# Altium footprint library GQ2440.PcbLib: 44 footprints (part 3 of 3)
Each footprint in its own frame and in the unit in brackets; x right, y up, seen from the top. Pads: shape width x height; smd on the part's side, far side on the other; paste and mask are expansions set on the pad; w line width, h text height; cw(c..) or ccw(c..) is an arc to the next point about the centre after c.
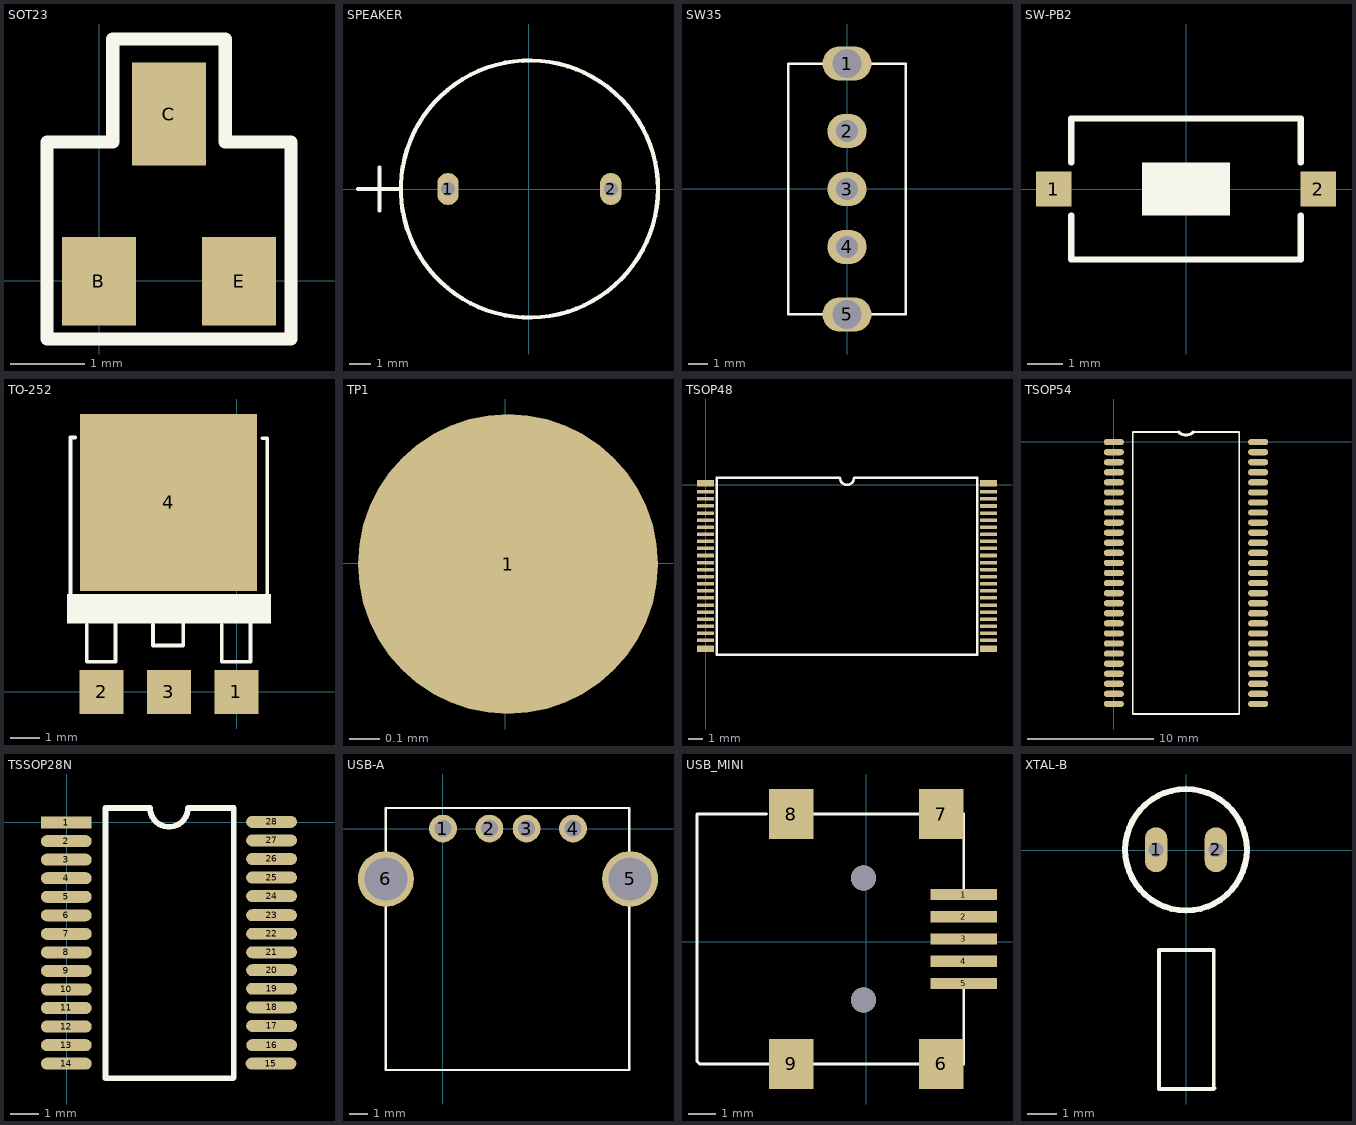
[diagram p2: the footprints below, top view; thin cyan lines are the x and y axes]

## SOT23 [mm]
pads (3):
  rect 1x1.2 smd: B(-0.006,-0.008) E(1.894,-0.008)
  rect 1x1.4 smd: C(0.944,2.258)
Top Overlay:
  lines w0.178: -0.707,-0.79 -0.707,1.877 0.182,1.877 0.182,3.274 1.706,3.274 1.706,1.877 2.595,1.877 2.595,-0.79 -0.707,-0.79

## SPEAKER [mm]
pads (2):
  oval 1x1.5 hole 0.65: 1(-3.779,0.01) 2(3.821,0.01)
Top Overlay:
  circle w0.2: c0.021,0.01 r6
  lines w0.2: -7.979,0.01 -5.979,0.01 ; -6.979,-0.99 -6.979,1.01

## SW35 [mil]
pads (5):
  oval 100x70 hole 60: 1(-0.65,255.25) 5(-0.65,-256.57)
  oval 80x70 hole 45: 2(-0.65,117.45) 3(-0.65,-0.66) 4(-0.65,-118.77)
Top Overlay:
  lines w5: -120.65,-255.66 119.35,-255.66 119.35,254.34 -120.65,254.34 -120.65,-255.66

## SW-PB2 [mm]
pads (2):
  rect 1x1 smd: 1(-3.753,0.001) 2(3.747,0.001)
Top Overlay:
  rectangle: -1.253,-0.749 1.247,0.751
  lines w0.178: -3.253,-0.749 -3.253,-1.999 3.247,-1.999 3.247,-0.749 ; -3.253,0.751 -3.253,2.001 3.247,2.001 3.247,0.751

## TO-252 [mm]
pads (4):
  rect 1.5x1.5 smd: 1(-0.011,-0.009) 2(-4.583,-0.009) 3(-2.297,-0.009)
  rect 6x6 smd: 4(-2.311,6.416)
Top Overlay:
  rectangle: -5.759,2.315 1.166,3.315
  lines w0.127: -5.636,3.141 -5.636,8.616 ; -5.611,8.616 -5.486,8.616 ; -5.086,2.266 -5.086,1.016 -4.111,1.016 -4.111,2.291 ; -2.836,2.266 -2.836,1.566 -1.811,1.566 -1.811,2.366 ; -0.511,2.266 -0.511,1.016 0.464,1.016 ; 0.464,2.291 0.464,1.016 ; 0.864,8.591 1.014,8.591 ; 1.039,3.166 1.039,8.591 ; 0.464,1.016 0.464,1.016

## TP1 [mm]
pads (1):
  round 1 smd: 1(0.009,-0.003)

## TSOP48 [mm]
pads (48):
  rect 1.2x0.45 smd: 1(-0.012,0.103) 24(-0.012,-11.597) 25(19.988,-11.597) 48(19.988,0.103)
  rect 1.2x0.25 smd: 2(-0.012,-0.497) 3(-0.012,-0.997) 4(-0.012,-1.497) 5(-0.012,-1.997) 6(-0.012,-2.497) 7(-0.012,-2.997) 8(-0.012,-3.497) 9(-0.012,-3.997) 10(-0.012,-4.497) 11(-0.012,-4.997) 12(-0.012,-5.497) 13(-0.012,-5.997) 14(-0.012,-6.497) 15(-0.012,-6.997) 16(-0.012,-7.497) 17(-0.012,-7.997) 18(-0.012,-8.497) 19(-0.012,-8.997) 20(-0.012,-9.497) 21(-0.012,-9.997) 22(-0.012,-10.497) 23(-0.012,-10.997) 26(19.988,-10.997) 27(19.988,-10.497) 28(19.988,-9.997) 29(19.988,-9.497) 30(19.988,-8.997) 31(19.988,-8.497) 32(19.988,-7.997) 33(19.988,-7.497) 34(19.988,-6.997) 35(19.988,-6.497) 36(19.988,-5.997) 37(19.988,-5.497) 38(19.988,-4.997) 39(19.988,-4.497) 40(19.988,-3.997) 41(19.988,-3.497) 42(19.988,-2.997) 43(19.988,-2.497) 44(19.988,-1.997) 45(19.988,-1.497) 46(19.988,-0.997) 47(19.988,-0.497)
Top Overlay:
  lines w0.178: 0.788,-11.997 19.188,-11.997 19.188,0.503 10.488,0.503 cw(c9.988,0.503) 9.488,0.503 0.788,0.503 0.788,-11.997

## TSOP54 [mm]
pads (54):
  oval 1.6x0.5 smd: 1(-0.006,-0.005) 2(-0.006,-0.805) 3(-0.006,-1.605) 4(-0.006,-2.405) 5(-0.006,-3.205) 6(-0.006,-4.005) 7(-0.006,-4.805) 8(-0.006,-5.605) 9(-0.006,-6.405) 10(-0.006,-7.205) 11(-0.006,-8.005) 12(-0.006,-8.805) 13(-0.006,-9.605) 14(-0.006,-10.405) 15(-0.006,-11.205) 16(-0.006,-12.005) 17(-0.006,-12.805) 18(-0.006,-13.605) 19(-0.006,-14.405) 20(-0.006,-15.205) 21(-0.006,-16.005) 22(-0.006,-16.805) 23(-0.006,-17.605) 24(-0.006,-18.405) 25(-0.006,-19.205) 26(-0.006,-20.005) 27(-0.006,-20.805) 28(11.454,-20.805) 29(11.454,-20.005) 30(11.454,-19.205) 31(11.454,-18.405) 32(11.454,-17.605) 33(11.454,-16.805) 34(11.454,-16.005) 35(11.454,-15.205) 36(11.454,-14.405) 37(11.454,-13.605) 38(11.454,-12.805) 39(11.454,-12.005) 40(11.454,-11.205) 41(11.454,-10.405) 42(11.454,-9.605) 43(11.454,-8.805) 44(11.454,-8.005) 45(11.454,-7.205) 46(11.454,-6.405) 47(11.454,-5.605) 48(11.454,-4.805) 49(11.454,-4.005) 50(11.454,-3.205) 51(11.454,-2.405) 52(11.454,-1.605) 53(11.454,-0.805) 54(11.454,-0.005)
Top Overlay:
  lines w0.127: 5.133,0.795 1.494,0.795 1.494,-21.605 9.954,-21.605 9.954,0.795 6.315,0.795
  lines w0.254: 5.133,0.795 ccw(c5.724,1.386) 6.315,0.795

## TSSOP28N [mm]
pads (28):
  rect 1.78x0.42 smd: 1(-0.013,-0.007)
  oval 1.78x0.42 smd: 2(-0.013,-0.657) 3(-0.013,-1.307) 4(-0.013,-1.957) 5(-0.013,-2.607) 6(-0.013,-3.257) 7(-0.013,-3.907) 8(-0.013,-4.557) 9(-0.013,-5.207) 10(-0.013,-5.857) 11(-0.013,-6.507) 12(-0.013,-7.157) 13(-0.013,-7.807) 14(-0.013,-8.457) 15(7.162,-8.457) 16(7.187,-7.807) 17(7.183,-7.132) 18(7.183,-6.482) 19(7.183,-5.832) 20(7.183,-5.182) 21(7.183,-4.554) 22(7.183,-3.904) 23(7.183,-3.254) 24(7.183,-2.582) 25(7.183,-1.932) 26(7.183,-1.282) 27(7.183,-0.632) 28(7.183,0.018)
Top Overlay:
  lines w0.204: 5.826,-8.971 1.357,-8.971 1.357,0.507 2.923,0.507 ccw(c3.587,0.507) 4.252,0.507 5.857,0.507 5.857,-7.768 5.857,-8.94

## USB-A [mm]
pads (6):
  round 1.5 hole 0.92: 1(0.009,0.013) 2(2.509,0.013) 3(4.509,0.013) 4(7.009,0.013)
  round 3 hole 2.3: 5(10.079,-2.697) 6(-3.061,-2.697)
Top Overlay:
  lines w0.127: -3.061,-12.977 10.039,-12.977 10.039,1.123 -3.061,1.123 -3.061,-2.697 -3.061,-12.977

## USB_MINI [mm]
pads (9):
  rect 2.4x0.4 smd: 1(3.506,1.702) 2(3.506,0.902) 3(3.506,0.102) 4(3.506,-0.698) 5(3.506,-1.498)
  rect 1.6x1.8 smd: 6(2.706,-4.398) 7(2.706,4.602) 8(-2.694,4.602) 9(-2.694,-4.398)
via -0.094,-2.098 diameter 0.9 hole 0.9
via -0.094,2.302 diameter 0.9 hole 0.9
Top Overlay:
  lines w0.1: -3.594,4.602 -6.094,4.602 -6.094,-4.298 -5.994,-4.398 -3.494,-4.398 ; -1.894,-4.398 1.906,-4.398 ; -1.894,4.602 1.906,4.602 ; 3.506,-4.398 3.506,-1.698 ; 3.506,1.902 3.506,4.602

## XTAL-B [mm]
pads (2):
  oval 0.75x1.5 hole 0.5: 1(-1.004,0.017) 2(0.996,0.017)
Top Overlay:
  circle w0.2: c-0.004,0.017 r2.032
  lines w0.127: 0.946,-7.958 0.921,-7.983 ; 0.921,-7.983 -0.904,-7.983 -0.904,-3.333 0.921,-3.333 0.921,-7.983